# Altium footprint library RFM23BP.PcbLib: 1 footprints
Each footprint in its own frame and in the unit in brackets; x right, y up, seen from the top. Pads: shape width x height; smd on the part's side, far side on the other; paste and mask are expansions set on the pad; w line width, h text height; cw(c..) or ccw(c..) is an arc to the next point about the centre after c.
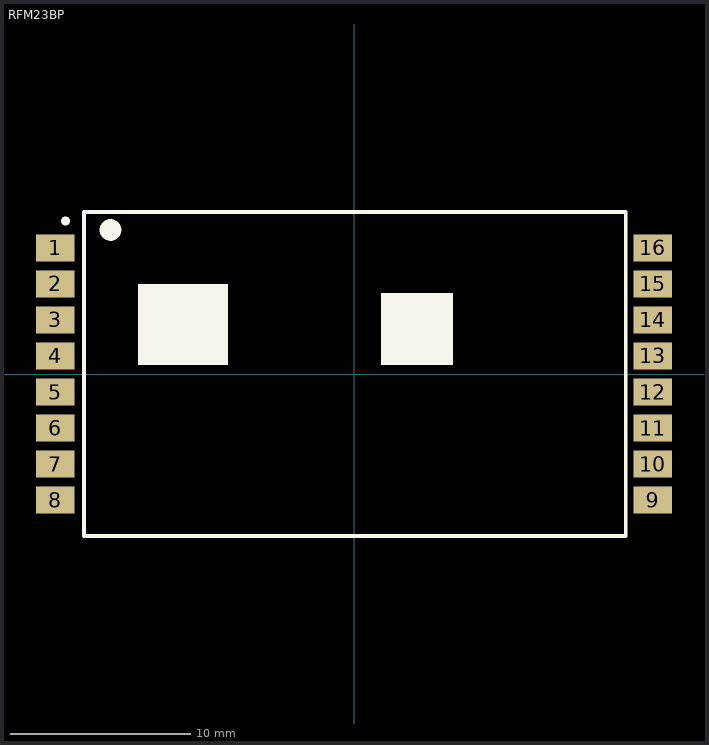
[diagram p0: the footprint, top view; thin cyan lines are the x and y axes]

## RFM23BP [mm]
height 1
pads (16):
  rect 2.15x1.5 smd: 1(-16.6,7) 2(-16.6,5) 3(-16.6,3) 4(-16.6,1) 5(-16.6,-1) 6(-16.6,-3) 7(-16.6,-5) 8(-16.6,-7) 9(16.6,-7) 10(16.6,-5) 11(16.6,-3) 12(16.6,-1) 13(16.6,1) 14(16.6,3) 15(16.6,5) 16(16.6,7)
Top Overlay:
  circle w0.25: c-16.025,8.5 r0.125
  circle w0.6: c-13.525,8 r0.3
  rectangle: 1.5,0.5 5.5,4.5
  rectangle: -12,0.5 -7,5
  lines w0.2: -15,-9 -15,9 15.1,9 15.1,-9 -15,-9